# EAGLE library part 687120183722 (library Eagle_FPC_CONNECTOR_AND_FFC_CAB (rev18c))
687120183722 WR-FPC 0.50mm SMT Horizontal Bottom Contact - Low Profile <http://katalog.we-online.de/media/images/v2/Family_WR-FPC_6871xx183722.jpg> Details see: http://katalog.we-online.de/en/em/FPC_0_5_SMT_ZIF_HORIZONTAL_BOTTOM_CONTACT_LOW_PROFILE_6871xx183722 Created by Yingchun,shan 2016 (C) Wurth Elektronik
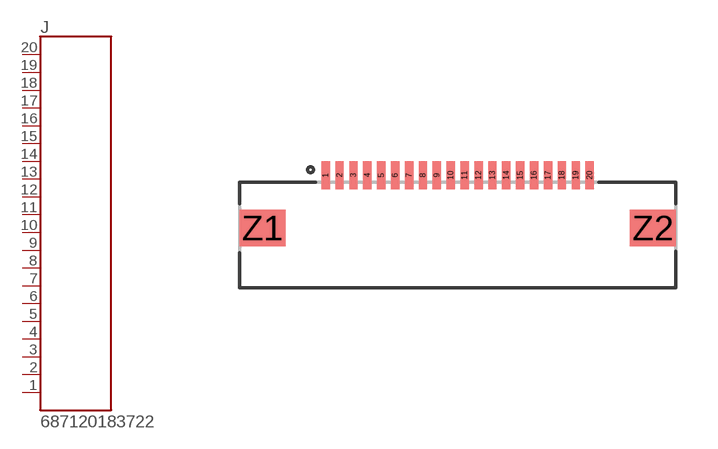
[diagram p202: symbol with the pads of 687120183722; footprint 687120183722]

Designator prefix J

## 687120183722  [687120183722]
1  20  pas
2  19  pas
3  18  pas
4  17  pas
5  16  pas
6  15  pas
7  14  pas
8  13  pas
9  12  pas
10  11  pas
11  10  pas
12  9  pas
13  8  pas
14  7  pas
15  6  pas
16  5  pas
17  4  pas
18  3  pas
19  2  pas
20  1  pas

## Footprint 687120183722 (pad centres in mm)
smd 0.3 x 1: 1 -4.75,1.9; 2 -4.25,1.9; 3 -3.75,1.9; 4 -3.25,1.9; 5 -2.75,1.9; 6 -2.25,1.9; 7 -1.75,1.9; 8 -1.25,1.9; 9 -0.75,1.9; 10 -0.25,1.9; 11 0.25,1.9; 12 0.75,1.9; 13 1.25,1.9; 14 1.75,1.9; 15 2.25,1.9; 16 2.75,1.9; 17 3.25,1.9; 18 3.75,1.9; 19 4.25,1.9; 20 4.75,1.9
smd 1.65 x 1.3: Z1 -7.025,0; Z2 7.025,0